# Altium schematic symbol library tyco-term-block.SchLib: 9 symbols
Pins are listed as number, name and electrical type; pins without a type are passive.

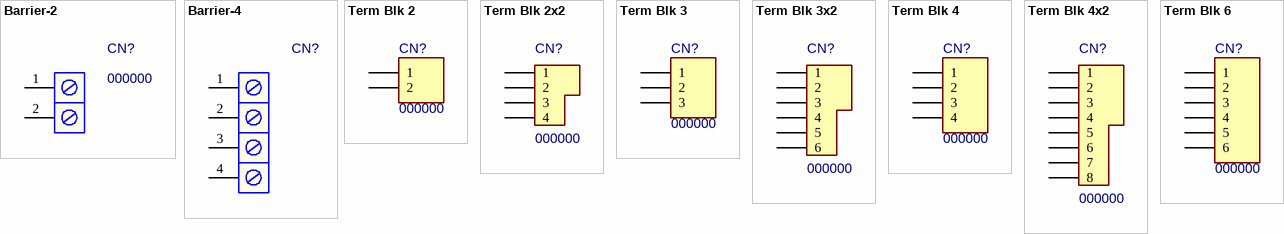
[diagram p0: symbols Barrier-2 to Term Blk 6]

## Barrier-2
designator CN?, comment 000000
Barrier Terminal Block 2 Positions; MF: TE Connectivity; MF PN: *; PN: 000000; Price: *; Value: *; Digi-Key PN: *; Package: PTH; ExtraInfo: *
footprint 4PCV-02-006 (Barrier Terminal Block; 8.25mm Pitch; 2 Positions)
pins: 1, 2

## Barrier-4
designator CN?
Barrier Terminal Block4 Positions; MF: TE Connectivity; PN: 000000; MF PN: *; Value: *; Price: *; Digi-Key PN: *; ExtraInfo: *; Package: PTH
footprint 6PCV-04-006 (Barrier Terminal Block; 9.53mm Pitch; 4 Positions)
pins: 1, 2, 3, 4

## Term Blk 2
designator CN?, comment 000000
Terminal Block, Header, 2-Pos; MF: TE Connectivity; PN: 000000; Package: PTH; Value: *; ExtraInfo: *; MF PN: *; Price: *; Digi-Key PN: *
footprint 284541-2 (2 Pos, Terminal Block, Header Assembly, 90dg, 3.81mm Pitch, Threaded Flange)
signal-integrity model Connector
footprint 796638-2 (2 Pos, Terminal Block, Header Assembly, 90dg, 5.08mm Pitch)
footprint 8PCV-02-006 (2 Pos, Barrier Block, Header Assembly, 11.12mm Pitch)
footprint 796636-2 (2 Pos, Terminal Block, Header Assembly, RA, 5.08mm Pitch)
pins: 1, 2

## Term Blk 2x2
designator CN?, comment 000000
Terminal Block, Header, 2-Pos, 2-Rows; MF: TE Connectivity; PN: 000000; Value: *; ExtraInfo: *; Package: PTH
signal-integrity model Connector
footprint 284061-4 (4 Pos, 2 Rows, Terminal Block, Header Assembly, 90dg, 5.08mm Pitch)
pins: 1, 2, 3, 4

## Term Blk 3
designator CN?, comment 000000
Terminal Block, Header, 3-Pos; MF: TE Connectivity; PN: 000000; ExtraInfo: *; Package: PTH; Value: *
footprint 284541-3 (3 Pos, Terminal Block, Header Assembly, 90dg, 3.81mm Pitch, Threaded Flange)
signal-integrity model Connector
footprint 796638-3 (3 Pos, Terminal Block, Header Assembly, 90dg, 5.08mm Pitch)
footprint 796636-3 (3 Pos, Terminal Block, Header Assembly, RA, 5.08mm Pitch)
pins: 1, 2, 3

## Term Blk 3x2
designator CN?, comment 000000
Terminal Block, Header, 3-Pos, 2-Rows; MF: TE Connectivity; PN: 000000; Value: *; ExtraInfo: *; Package: PTH
signal-integrity model Connector
footprint 284061-4 (4 Pos, 2 Rows, Terminal Block, Header Assembly, 90dg, 5.08mm Pitch)
pins: 1, 2, 3, 4, 5, 6

## Term Blk 4
designator CN?, comment 000000
Terminal Block, Header, 4-Pos; MF: TE Connectivity; PN: 000000; Value: *; ExtraInfo: *; Package: PTH
footprint 284541-4 (4 Pos, Terminal Block, Header Assembly, 90dg, 3.81mm Pitch, Threaded Flange)
signal-integrity model Connector
footprint 796638-4 (4 Pos, Terminal Block, Header Assembly, 90dg, 5.08mm Pitch)
footprint 796636-4 (4 Pos, Terminal Block, Header Assembly, RA, 5.08mm Pitch)
pins: 1, 2, 3, 4

## Term Blk 4x2
designator CN?, comment 000000
Terminal Block, Header, 4-Pos, 2-Rows; MF: TE Connectivity; PN: 000000; Value: *; ExtraInfo: *; Package: PTH
signal-integrity model Connector
footprint 284061-4 (4 Pos, 2 Rows, Terminal Block, Header Assembly, 90dg, 5.08mm Pitch)
pins: 1, 2, 3, 4, 5, 6, 7, 8

## Term Blk 6
designator CN?, comment 000000
Terminal Block, Header, 6-Pos; MF: TE Connectivity; PN: 000000; Value: *; Package: PTH; ExtraInfo: *
footprint 284541-6 (6 Pos, Terminal Block, Header Assembly, 90dg, 3.81mm Pitch, Threaded Flange)
signal-integrity model Connector
pins: 1, 2, 3, 4, 5, 6